# EAGLE library part PB-22E62-S (library edrtech_lib)
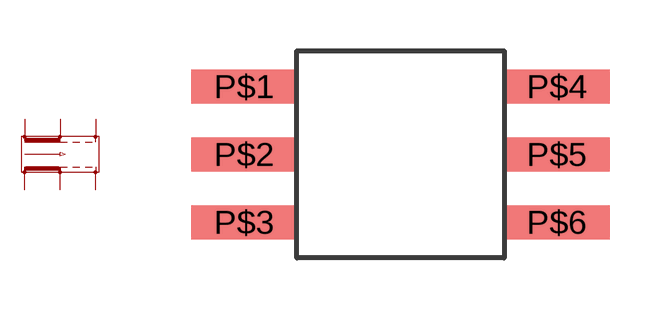
[diagram p24: symbol with the pads of PB-22E62; footprint PB-22E62]

Designator prefix -

## PB-22E62-S  [PB-22E62]
P$1  P$1
P$2  P$2
P$3  P$3
P$4  P$4
P$5  P$5
P$6  P$6

## Footprint PB-22E62 (pad centres in mm)
smd 3.1 x 1: P$1 -4.6,2; P$2 -4.6,0; P$3 -4.6,-2; P$4 4.6,2; P$5 4.6,0; P$6 4.6,-2